# Altium schematic symbol library APT1608CGCK.SchLib: 1 symbol
Pins are listed as number, name and electrical type; pins without a type are passive.

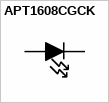
[diagram p0: symbol APT1608CGCK]

## APT1608CGCK
designator ?
LED 1.6X0.8MM 570NM GRN CLR SMD
pins: A, C